# Altium footprint library CN 43650-0812.PcbLib: 1 footprints
Each footprint in its own frame and in the unit in brackets; x right, y up, seen from the top. Pads: shape width x height; smd on the part's side, far side on the other; paste and mask are expansions set on the pad; w line width, h text height; cw(c..) or ccw(c..) is an arc to the next point about the centre after c.
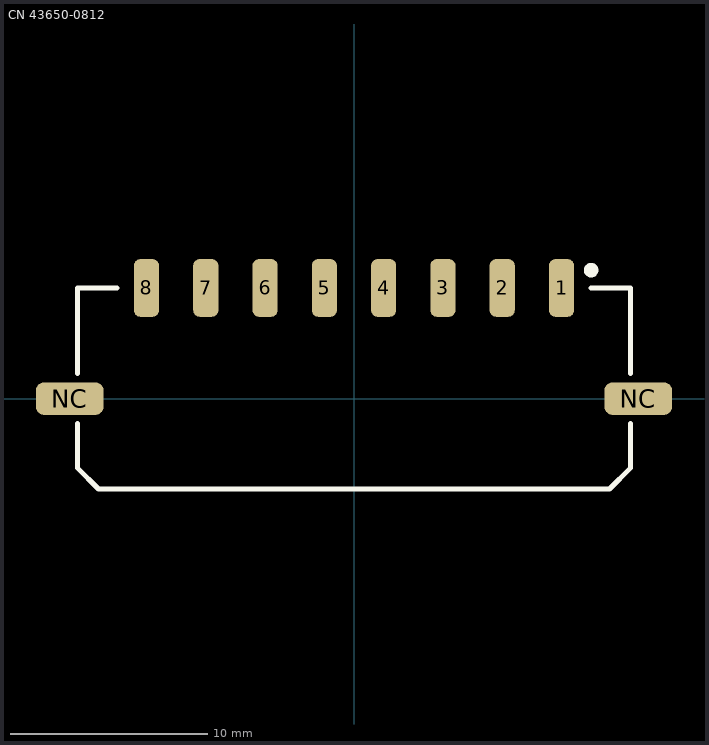
[diagram p0: the footprint, top view; thin cyan lines are the x and y axes]

## CN 43650-0812 [mm] "Molex Micro-Fit 043650 SMD 8CKT"
pads (10):
  rrect50% 1.27x2.921 smd: 1(10.5,5.6) 2(7.5,5.6) 3(4.5,5.6) 4(1.5,5.6) 5(-1.5,5.6) 6(-4.5,5.6) 7(-7.5,5.6) 8(-10.5,5.6)
  rrect50% 3.429x1.651 smd: NC(-14.385,0) NC(14.385,0)
Top Overlay:
  circle w0.381: c12,6.5 r0.178
  lines w0.254: -14,-1.27 -14,-3.5 -12.928,-4.572 0,-4.572 12.928,-4.572 14,-3.5 14,-1.27 ; -14,1.27 -14,5.588 -12,5.588 ; 12,5.588 14,5.588 14,1.27
3D body "436500812.stp": height 5.64, standoff -0.04, extent -15.82,-4.6 15.82,6.14